# Altium footprint library 2pinpwd.PcbLib: 1 footprints
Each footprint in its own frame and in the unit in brackets; x right, y up, seen from the top. Pads: shape width x height; smd on the part's side, far side on the other; paste and mask are expansions set on the pad; w line width, h text height; cw(c..) or ccw(c..) is an arc to the next point about the centre after c.
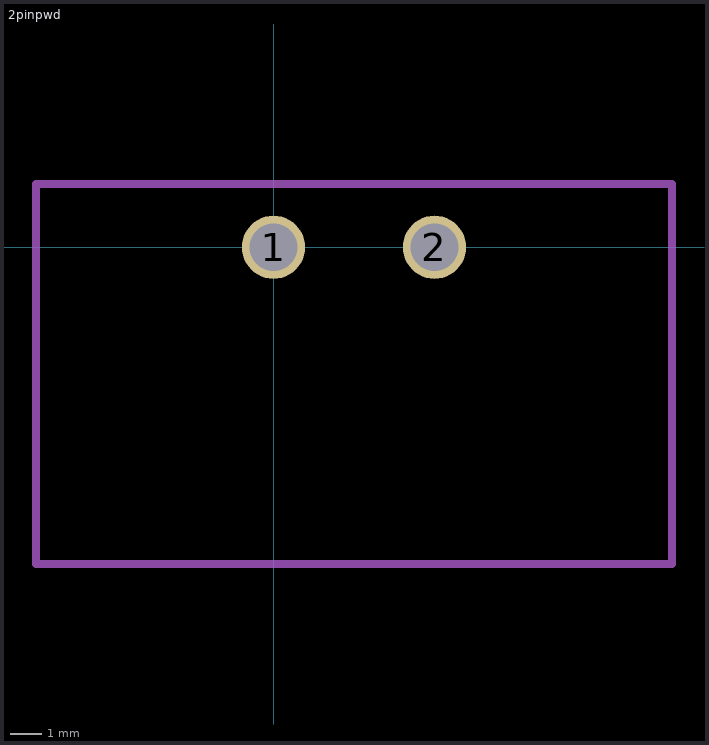
[diagram p0: the footprint, top view; thin cyan lines are the x and y axes]

## 2pinpwd [mm]
pads (2):
  round 2 hole 1.5: 1(0,0) 2(5.08,0)
Mechanical 1:
  lines w0.254: -7.5,-10 -7.5,2 12.58,2 12.58,-10 -7.5,-10
3D body "1776508.stp": height 8.6, standoff -3.5, extent -7.66,-10.002 12.66,2